# Altium schematic symbol library RLC.SchLib: 2 symbols
Pins are listed as number, name and electrical type; pins without a type are passive.

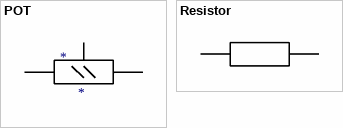
[diagram p0: symbols POT to Resistor]

## POT
designator *
pins: 1, 2, 3

## Resistor
designator D?  (value not drawn)
Rem: *; Package: 0805; Value: *; Tolerance: *; Power/Voltage: *; TKE: *; ManufacturerPartNumber: *; Manufacturer: *; Quantity: *; Примечание: *
footprint R0805
pins: 1, 2